# Altium footprint library key.pcblib: 1 footprints
Each footprint in its own frame and in the unit in brackets; x right, y up, seen from the top. Pads: shape width x height; smd on the part's side, far side on the other; paste and mask are expansions set on the pad; w line width, h text height; cw(c..) or ccw(c..) is an arc to the next point about the centre after c.
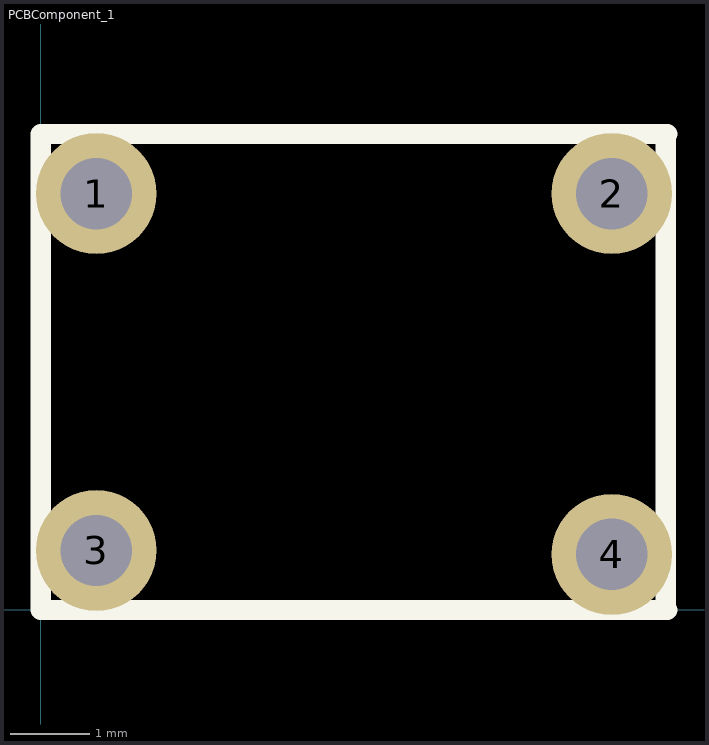
[diagram p0: the footprint, top view; thin cyan lines are the x and y axes]

## PCBComponent_1 [mm]
pads (4):
  round 1.524 hole 0.9: 1(0.7,5.25) 2(7.2,5.25) 3(0.7,0.75) 4(7.2,0.7)
Top Overlay:
  lines w0.254: 7.881,0 7.881,6 ; 7.9,0 0,0 0,6 7.9,6